# Altium integrated library Chin Nan RF Coaxial SMA.IntLib: 1 symbol
Pins are listed as number, name and electrical type; pins without a type are passive.

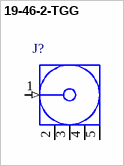
[diagram p0: symbol 19-46-2-TGG]

## 19-46-2-TGG
designator J?
SMA RF Coaxial PCB Connector, SM, Vertical Mount Socket, 50 Ohm Impedance; Published: 12-Dec-2006; DatasheetVersion: rev.A-0, Jul-2002; PackageVersion: rev.A-0, Jul-2002; PackageReference: 19-46-2; Publisher: Altium Limited; PackageDescription: SMA Straight PCB Surface Mount Jack Receptacle; ComponentLink1Description: Manufacturer Link; ComponentLink1URL: http://www.chinnan.com.tw/
footprint 19-46-2_A (Connector; RF Coaxial, SMA, SM; 5 Position; Vertical)
footprint 19-46-2_B (Connector; RF Coaxial, SMA, SM; 5 Position; Vertical - Large Pad Version)
signal-integrity model RF Coaxial
pins: 1 Signal (in) "Signal Pin", 2 GND (power), 3 GND (power), 4 GND (power), 5 GND (power)